# EAGLE library part V9958 (library 68komputer)
V9958 – VDP Reference Manual <http://map.grauw.nl/resources/video/yamaha_v9958_ocr.pdf> MODE0, MODE1: Connect to address bus (A1-A2) /VRESET, /HRESET: Tie to VCC
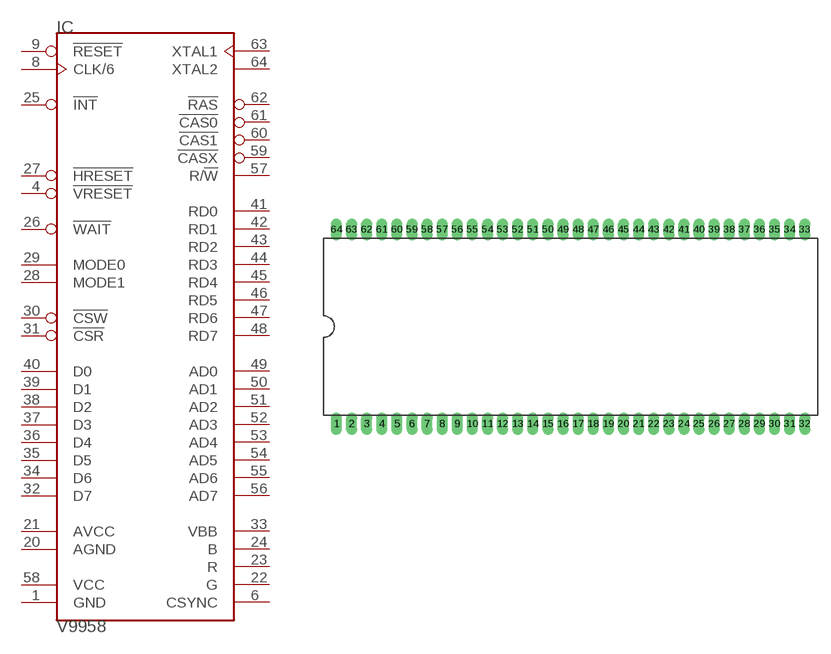
[diagram p34: symbol with the pads of DIL64Y; footprint DIL64Y]

Designator prefix IC

## V9958SDIP64 (VALUE: V9958)  [DIL64Y]
1  GND  pwr
4  !VRESET  in
6  CSYNC  out
8  CLK/6  out
9  !RESET  in
20  AGND  pwr
21  AVCC  pwr
22  G  out
23  R  out
24  B  out
25  !INT  out
26  !WAIT  out
27  !HRESET  in
28  MODE1  in
29  MODE0  in
30  !CSW  in
31  !CSR  in
32  D7
33  VBB  pas
34  D6
35  D5
36  D4
37  D3
38  D2
39  D1
40  D0
41  RD0
42  RD1
43  RD2
44  RD3
45  RD4
46  RD5
47  RD6
48  RD7
49  AD0
50  AD1
51  AD2
52  AD3
53  AD4
54  AD5
55  AD6
56  AD7
57  R/!W!  out
58  VCC  pwr
59  !CASX  out
60  !CAS1  out
61  !CAS0  out
62  !RAS  out
63  XTAL1  pas
64  XTAL2  pas

## Footprint DIL64Y (pad centres in mm)
Dual In Line, elongated pads
drill 0.813 long: 1 -27.559,-11.43; 2 -25.781,-11.43; 3 -24.003,-11.43; 4 -22.225,-11.43; 5 -20.447,-11.43; 6 -18.669,-11.43; 7 -16.891,-11.43; 8 -15.113,-11.43; 9 -13.335,-11.43; 10 -11.557,-11.43; 11 -9.779,-11.43; 12 -8.001,-11.43; 13 -6.223,-11.43; 14 -4.445,-11.43; 15 -2.667,-11.43; 16 -0.889,-11.43; 17 0.889,-11.43; 18 2.667,-11.43; 19 4.445,-11.43; 20 6.223,-11.43; 21 8.001,-11.43; 22 9.779,-11.43; 23 11.557,-11.43; 24 13.335,-11.43; 25 15.113,-11.43; 26 16.891,-11.43; 27 18.669,-11.43; 28 20.447,-11.43; 29 22.225,-11.43; 30 24.003,-11.43; 31 25.781,-11.43; 32 27.559,-11.43; 33 27.559,11.43; 34 25.781,11.43; 35 24.003,11.43; 36 22.225,11.43; 37 20.447,11.43; 38 18.669,11.43; 39 16.891,11.43; 40 15.113,11.43; 41 13.335,11.43; 42 11.557,11.43; 43 9.779,11.43; 44 8.001,11.43; 45 6.223,11.43; 46 4.445,11.43; 47 2.667,11.43; 48 0.889,11.43; 49 -0.889,11.43; 50 -2.667,11.43; 51 -4.445,11.43; 52 -6.223,11.43; 53 -8.001,11.43; 54 -9.779,11.43; 55 -11.557,11.43; 56 -13.335,11.43; 57 -15.113,11.43; 58 -16.891,11.43; 59 -18.669,11.43; 60 -20.447,11.43; 61 -22.225,11.43; 62 -24.003,11.43; 63 -25.781,11.43; 64 -27.559,11.43